# EAGLE library part USB2SER_BK_CON (library Custom)
PIN HEADER
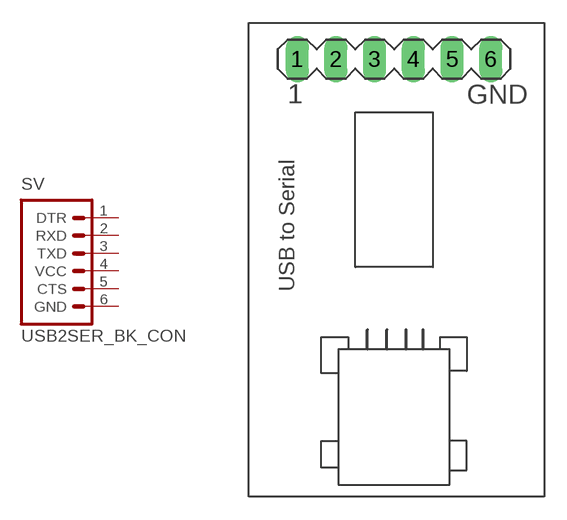
[diagram p56: symbol with the pads of USB2SER_CON; footprint USB2SER_CON]

Designator prefix SV

## USB2SER_BK_CON_FEMALE  [USB2SER_CON]
1  DTR  pas
2  RXD  pas
3  TXD  pas
4  VCC  pas
5  CTS  pas
6  GND  pas

## USB2SER_BK_CON_MALE  [USB2SER_CON]
1  GND  pas
2  CTS  pas
3  VCC  pas
4  TXD  pas
5  RXD  pas
6  DTR  pas

## Footprint USB2SER_CON (pad centres in mm)
PIN HEADER
drill 1.016 long: 1 -6.35,0; 2 -3.81,0; 3 -1.27,0; 4 1.27,0; 5 3.81,0; 6 6.35,0